# EAGLE library part BQ24210 (library LITTLEBITS140826)
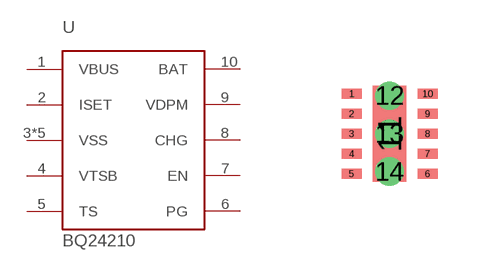
[diagram p64: symbol with the pads of WSON10; footprint WSON10]

Designator prefix -

## BQ24210  [WSON10]
1  VBUS
2  ISET  in
3  VSS
4  VTSB
5  TS  in
6  PG  out
7  EN  in
8  CHG  out
9  VDPM  in
10  BAT
11  VSS
12  VSS
13  VSS
14  VSS

## Footprint WSON10 (pad centres in mm)
smd 0.5 x 0.25: 1 -0.95,1; 2 -0.95,0.5; 3 -0.95,0; 4 -0.95,-0.5; 5 -0.95,-1; 6 0.95,-1; 7 0.95,-0.5; 8 0.95,0; 9 0.95,0.5; 10 0.95,1
smd 0.84 x 2.4: 11 0,0
drill 0.2 pad 0.406: 12 0,0.95; 13 0,0; 14 0,-0.95